# Altium schematic symbol library Bourns.SchLib: 2 symbols
Pins are listed as number, name and electrical type; pins without a type are passive.

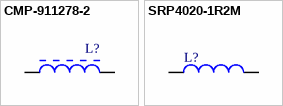
[diagram p0: symbols CMP-911278-2 to SRP4020-1R2M]

## CMP-911278-2
designator L?, comment SRN3015-100M  (value not drawn)
Semi-shielded Power Inductor, 10 uH, +/- 20%, 1 A, -40 to 125 degC, 3 x 3 x 1.5 mm SMD, RoHS and Halogen Free, Tape and Reel; Self Resonant Frequency: 45000000.0 Hz; Inductance: 10.0 µH; Number of Pins: 2; Octopart Url: https://octopart.com/srn3015-100m-bourns-20579191; OctopartID: 45668d5663779aa1; Packaging: Tape & Reel (TR); REACH SVHC Compliance: No SVHC; RoHS: Compliant; Manufacturer Part Number: SRN3015-100M
footprint SRN3015
pins: 1, 2

## SRP4020-1R2M
designator L?, comment Inductor  (value not drawn)
SRP4020-1R2M; C: Copyright (C) 2015 Accelerated Designs. All rights reserved; Vendor: Bourns Electronics; Built_By: EMA_UL_Team; Type: Wirewound; Tolerance: ±20%; Current Rating: 5A; DC Resistance (DCR): 22 mOhm Max; Inductance Frequency - Test: 100kHz; Manufacturer_Part_Number: SRP4020-1R2M
footprint IND_BOURNS_SRP40
footprint IND_BOURNS_SRP01
pins: 1, 2
1 alternate drawing of the same symbol